# Altium schematic symbol library LM2677T-ADJ&slash_NOPB.SchLib: 2 symbols
Pins are listed as number, name and electrical type; pins without a type are passive.

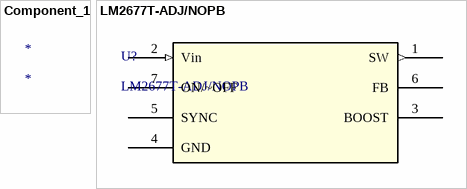
[diagram p0: symbols Component_1 to LM2677T-ADJ/NOPB]

## Component_1
designator *

## LM2677T-ADJ/NOPB
designator U?
No Description Available; Mfr_Name: Texas Instruments; Type: DEV; Copyright: Copyright (C) 2021 Ultra Librarian. All rights reserved.; Manufacturer_Part_Number: LM2677T-ADJ/NOPB; Digi-Key_Part_Number_1: LM2677T-ADJ/NOPB-ND; RefDes: RefDes
footprint TA07B
pins: 1 SW (out), 2 Vin (in), 3 BOOST, 4 GND, 5 SYNC, 6 FB, 7 ON/~OFF